# EAGLE library part 74HCT132N (library NXP_By_element14_Batch_1)
Quad 2-input NAND Schmitt trigger
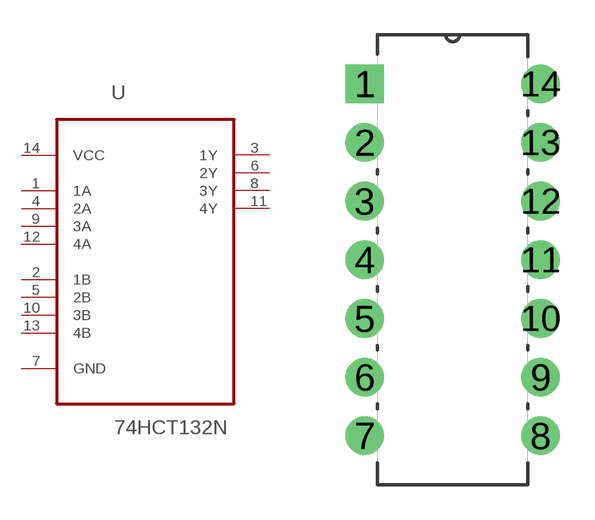
[diagram p172: symbol with the pads of DIP254P762X420-14; footprint DIP254P762X420-14]

Designator prefix U

## 74HCT132N (MPN: 74HCT132N; OC_FARNELL: 382012; OC_NEWARK: 07WX3535; P1I: o; PACKAGE: DIP-14; SUPPLIER: NXP)  [DIP254P762X420-14]
1  1A  in
2  1B  in
3  1Y  out
4  2A  in
5  2B  in
6  2Y  out
7  GND  pas
8  3Y  out
9  3A  in
10  3B  in
11  4Y  out
12  4A  in
13  4B  in
14  VCC  pwr

## Footprint DIP254P762X420-14 (pad centres in mm)
drill 1.118 square: 1 -7.62,15.24
drill 1.118: 2 -7.62,12.7; 3 -7.62,10.16; 4 -7.62,7.62; 5 -7.62,5.08; 6 -7.62,2.54; 7 -7.62,0; 8 0,0; 9 0,2.54; 10 0,5.08; 11 0,7.62; 12 0,10.16; 13 0,12.7; 14 0,15.24